# EAGLE library part SUPERSABRE_8CIRCUIT (library molex)
Molex SuperSabre 172042-0806 8-pin high-current vertical header Drawing <http://www.molex.com/pdm_docs/sd/1720420202_sd.pdf> Product Sheet <http://www.molex.com/molex/products/datasheet.jsp?part=active/1720420806_PCB_HEADERS.xml>
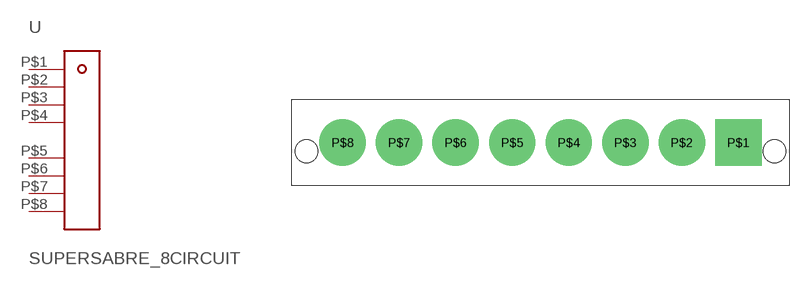
[diagram p9: symbol with the pads of SUPERSABRE_8-PIN; footprint SUPERSABRE_8-PIN]

Designator prefix -

## SUPERSABRE_8CIRCUIT  [SUPERSABRE_8-PIN]
P$1  1
P$2  2
P$3  3
P$4  4
P$5  5
P$6  6
P$7  7
P$8  8

## Footprint SUPERSABRE_8-PIN (pad centres in mm)
drill 5.15 square: P$1 26.25,0
drill 5.15: P$2 18.75,0; P$3 11.25,0; P$4 3.75,0; P$5 -3.75,0; P$6 -11.25,0; P$7 -18.75,0; P$8 -26.25,0
hole 3 at -31.05,-1.145
hole 3 at 31.05,-1.145